# EAGLE library part POLOLU_DRV8835 (library me433_2019_motorboard)
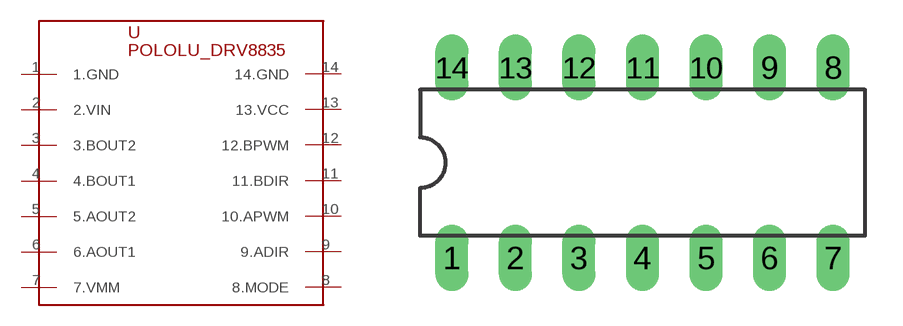
[diagram p0: symbol with the pads of DIL14; footprint DIL14]

Designator prefix -

## POLOLU_DRV8835  [DIL14]
1  1.GND
2  2.VIN
3  3.BOUT2
4  4.BOUT1
5  5.AOUT2
6  6.AOUT1
7  7.VMM
8  8.MODE
9  9.ADIR
10  10.APWM
11  11.BDIR
12  12.BPWM
13  13.VCC
14  14.GND

## Footprint DIL14 (pad centres in mm)
Dual In Line Package
drill 0.813 long: 1 -7.62,-3.81; 2 -5.08,-3.81; 3 -2.54,-3.81; 4 0,-3.81; 5 2.54,-3.81; 6 5.08,-3.81; 7 7.62,-3.81; 8 7.62,3.81; 9 5.08,3.81; 10 2.54,3.81; 11 0,3.81; 12 -2.54,3.81; 13 -5.08,3.81; 14 -7.62,3.81